# Altium footprint library button.PcbLib: 1 footprints
Each footprint in its own frame and in the unit in brackets; x right, y up, seen from the top. Pads: shape width x height; smd on the part's side, far side on the other; paste and mask are expansions set on the pad; w line width, h text height; cw(c..) or ccw(c..) is an arc to the next point about the centre after c.
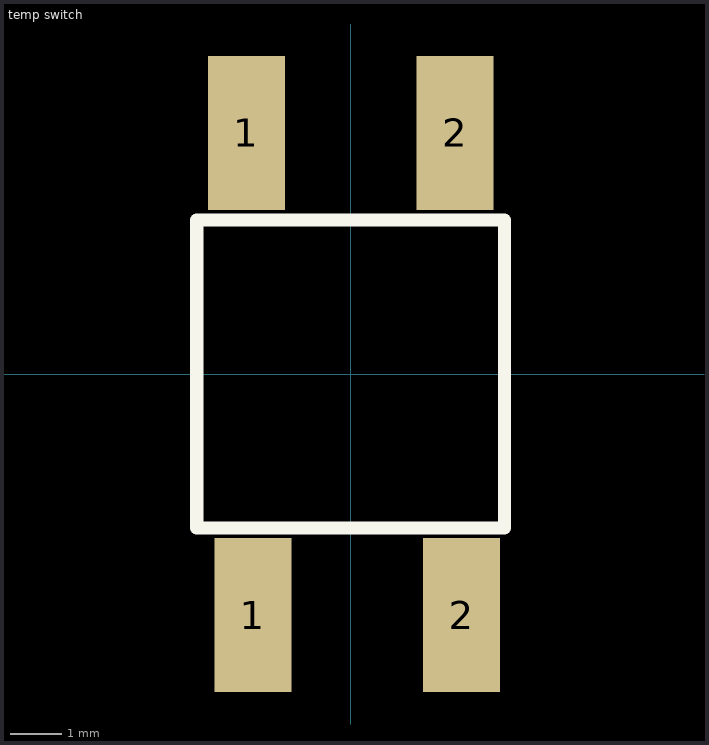
[diagram p0: the footprint, top view; thin cyan lines are the x and y axes]

## temp switch [mm]
pads (4):
  rect 1.5x3 smd: 1(-2.032,4.699) 1(-1.905,-4.699) 2(2.032,4.699) 2(2.159,-4.699)
Top Overlay:
  lines w0.254: -3,-3 3,-3 3,3 -3,3 -3,-3